# Altium footprint library RT6150BGQW.PcbLib: 1 footprints
Each footprint in its own frame and in the unit in brackets; x right, y up, seen from the top. Pads: shape width x height; smd on the part's side, far side on the other; paste and mask are expansions set on the pad; w line width, h text height; cw(c..) or ccw(c..) is an arc to the next point about the centre after c.
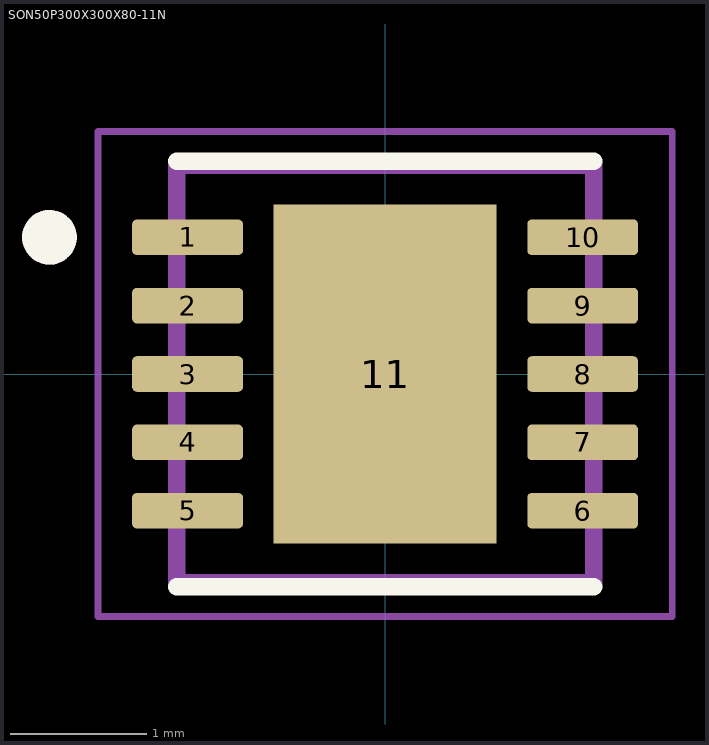
[diagram p0: the footprint, top view; thin cyan lines are the x and y axes]

## SON50P300X300X80-11N [mm]
pads (11):
  rrect25% 0.81x0.26 smd: 1(-1.445,1) 2(-1.445,0.5) 3(-1.445,0) 4(-1.445,-0.5) 5(-1.445,-1) 6(1.445,-1) 7(1.445,-0.5) 8(1.445,0) 9(1.445,0.5) 10(1.445,1)
  rect 1.63x2.48 smd paste-2: 11(0,0)
Top Overlay:
  circle w0.2: c-2.455,1 r0.1
  lines w0.127: -1.525,-1.558 1.525,-1.558 ; -1.525,1.558 1.525,1.558
Mechanical 13:
  circle w0.2: c-2.455,1 r0.1
  lines w0.127: -1.525,-1.525 1.525,-1.525 1.525,1.525 -1.525,1.525 -1.525,-1.525
Mechanical 15:
  lines w0.05: -2.1,-1.775 2.1,-1.775 2.1,1.775 -2.1,1.775 -2.1,-1.775